# Altium schematic symbol library IC_Texas_Instruments_LMK00804BPWR_CLK_Buffer.SchLib: 1 symbol
Pins are listed as number, name and electrical type; pins without a type are passive.

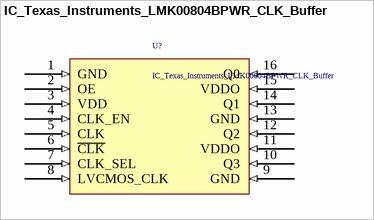
[diagram p0: symbol IC_Texas_Instruments_LMK00804BPWR_CLK_Buffer]

## IC_Texas_Instruments_LMK00804BPWR_CLK_Buffer
designator U?
Clock Buffer Low Skew 1to4 Multi Dif Fanout Buf; Supplier 1: Mouser; Supplier Part Number 1: 595-LMK00804BPWR
pins: 1 GND (in), 2 OE (in), 3 VDD (in), 4 CLK_EN (in), 5 CLK (in), 6 ~{CLK} (in), 7 CLK_SEL (in), 8 LVCMOS_CLK (in), 9 GND (in), 10 Q3 (in), 11 VDDO (in), 12 Q2 (in), 13 GND (in), 14 Q1 (in), 15 VDDO (in), 16 Q0 (in)